# Altium schematic symbol library 10.8x10mm_SMD_Inductor.SchLib: 1 symbol
Pins are listed as number, name and electrical type; pins without a type are passive.

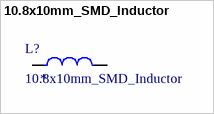
[diagram p0: symbol 10.8x10mm_SMD_Inductor]

## 10.8x10mm_SMD_Inductor
designator L?
10.8x10mm_SMD_Inductor ROHS; LCSC: *
footprint 10.8x10mm_SMD_Inductor
pins: 1, 2